# Altium footprint library PCB - MICROPHONE - TDK ICS‐40740.PcbLib: 1 footprints
Each footprint in its own frame and in the unit in brackets; x right, y up, seen from the top. Pads: shape width x height; smd on the part's side, far side on the other; paste and mask are expansions set on the pad; w line width, h text height; cw(c..) or ccw(c..) is an arc to the next point about the centre after c.
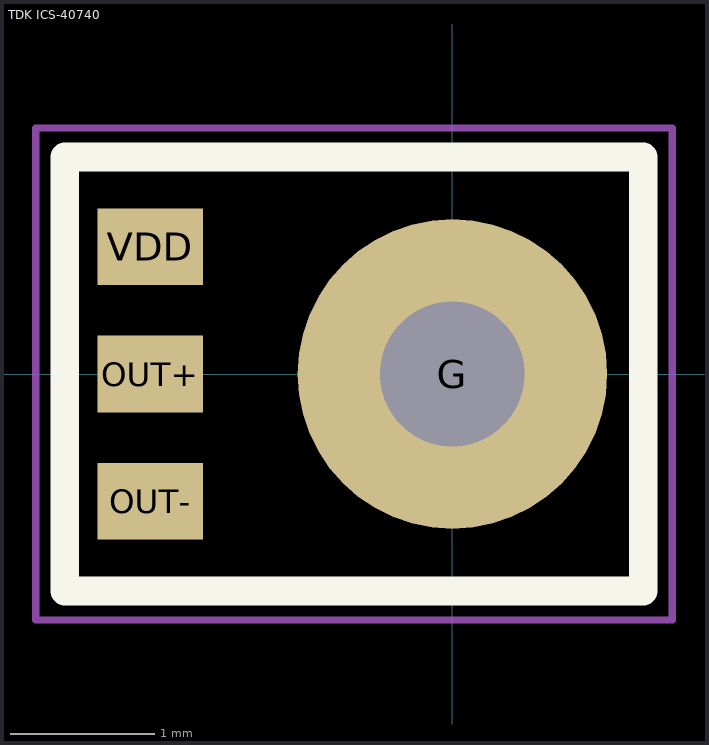
[diagram p0: the footprint, top view; thin cyan lines are the x and y axes]

## TDK ICS-40740 [mm] "Ultra-Low Noise Microphone with Differential Output 4x3.0"
height 1.3
pads (4):
  round 2.14 hole 1 unplated paste+0 mask+0: G(0,0)
  rect 0.73x0.53 smd: OUT+(-2.09,0) OUT-(-2.09,-0.88) VDD(-2.09,0.88)
Top Overlay:
  lines w0.2: -2.68,-1.5 1.32,-1.5 1.32,1.5 -2.68,1.5 -2.68,-1.5
Top Paste:
  lines w0.25: -0.921,-0.213 ccw(c0,0) 0.275,-0.904 ; -0.92,0.214 cw(c0,0) 0.276,0.904 ; 0.644,-0.691 ccw(c0,0) 0.646,0.69
Top Solder:
  circle w0.3: c0,0 r0.92
Mechanical 13:
  lines w0.1: -2.68,-1.5 1.32,-1.5 1.32,1.5 -2.68,1.5 -2.68,-1.5
Mechanical 15:
  lines w0.05: -0.5,0 0.5,0 ; 0,-0.5 0,0.5 ; -2.88,-1.7 1.52,-1.7 1.52,1.7 -2.88,1.7 -2.88,-1.7
3D body "TDK - ICS-40740.step": height 1.3, standoff 0, extent -2.68,-1.5 1.32,1.5